# Altium footprint library BGA20C40P4X5_162X202X50.PcbLib: 1 footprints
Each footprint in its own frame and in the unit in brackets; x right, y up, seen from the top. Pads: shape width x height; smd on the part's side, far side on the other; paste and mask are expansions set on the pad; w line width, h text height; cw(c..) or ccw(c..) is an arc to the next point about the centre after c.
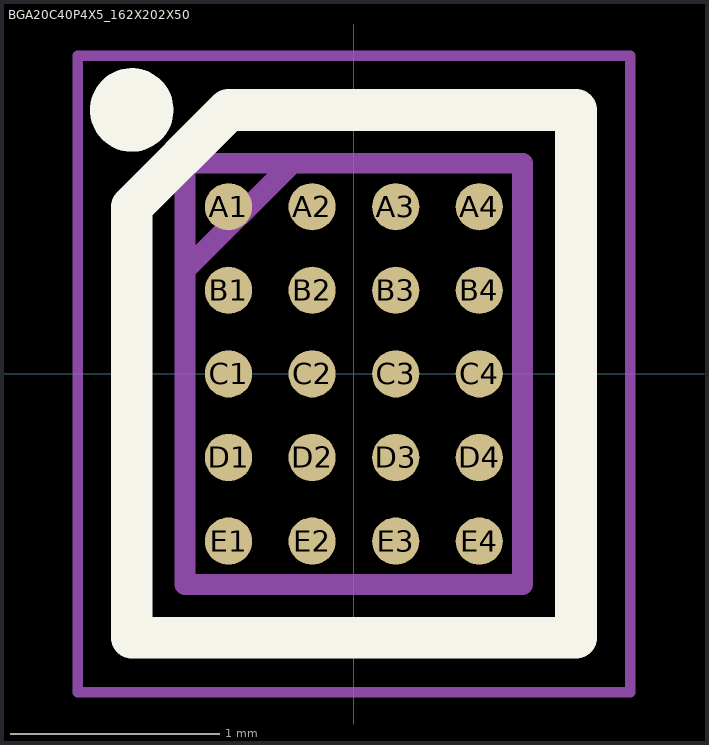
[diagram p0: the footprint, top view; thin cyan lines are the x and y axes]

## BGA20C40P4X5_162X202X50 [mm]
pads (20):
  round 0.226 smd: A1(-0.6,0.8) A2(-0.2,0.8) A3(0.2,0.8) A4(0.6,0.8) B1(-0.6,0.4) B2(-0.2,0.4) B3(0.2,0.4) B4(0.6,0.4) C1(-0.6,0) C2(-0.2,0) C3(0.2,0) C4(0.6,0) D1(-0.6,-0.4) D2(-0.2,-0.4) D3(0.2,-0.4) D4(0.6,-0.4) E1(-0.6,-0.8) E2(-0.2,-0.8) E3(0.2,-0.8) E4(0.6,-0.8)
Top Overlay:
  circle w0.2: c-1.063,1.263 r0.1
  lines w0.2: -1.063,-1.263 1.063,-1.263 1.063,1.263 -0.6,1.263 -1.063,0.8 -1.063,-1.263
Mechanical 15:
  lines w0.1: -0.808,0.496 -0.297,1.007 ; -0.808,-1.007 0.807,-1.007 0.807,1.008 -0.808,1.008 -0.808,-1.007
Mechanical 20:
  lines w0.05: -1.322,-1.523 1.323,-1.523 1.323,1.522 -1.322,1.522 -1.322,-1.523